# Altium footprint library Stove_Light.PcbLib: 127 footprints (part 6 of 8)
Each footprint in its own frame and in the unit in brackets; x right, y up, seen from the top. Pads: shape width x height; smd on the part's side, far side on the other; paste and mask are expansions set on the pad; w line width, h text height; cw(c..) or ccw(c..) is an arc to the next point about the centre after c.
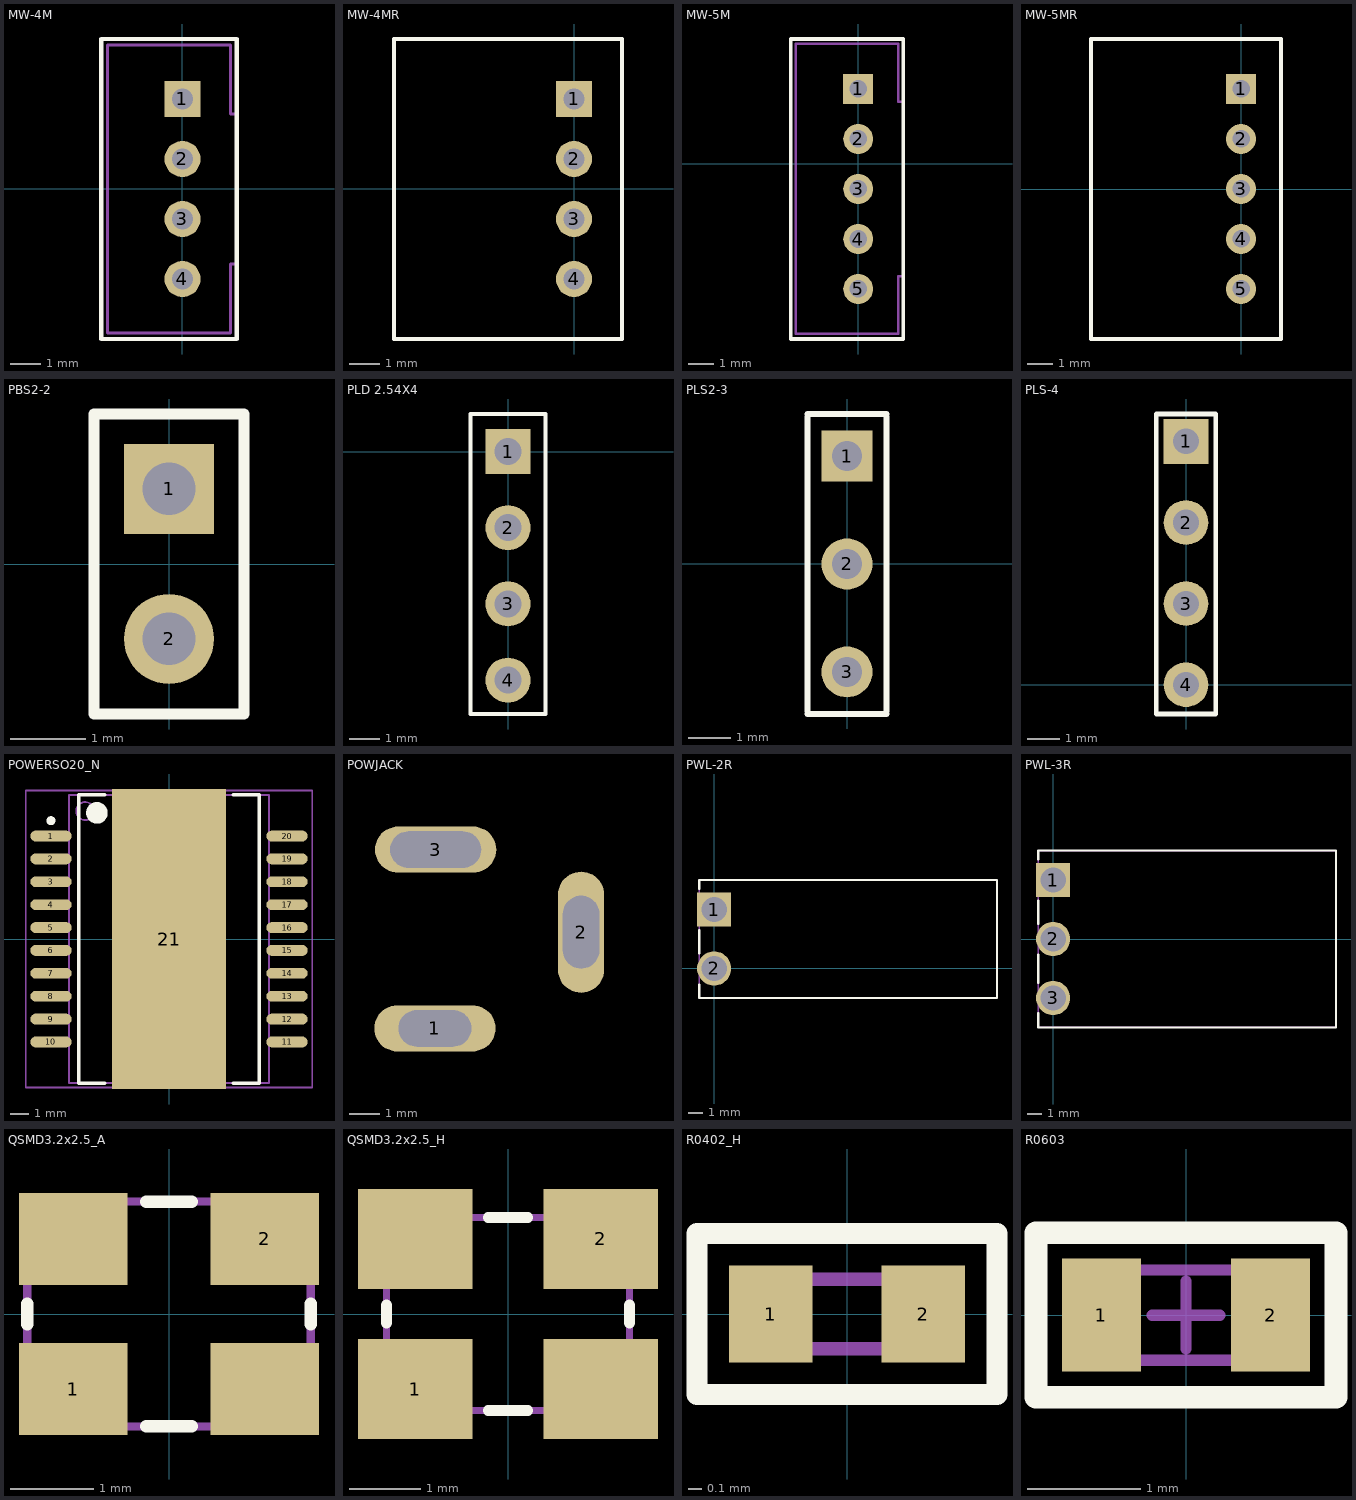
[diagram p5: the footprints below, top view; thin cyan lines are the x and y axes]

## MW-4M [mm]
height 6
pads (4):
  rect 1.2x1.2 hole 0.7: 1(0,3)
  round 1.2 hole 0.7: 2(0,1) 3(0,-1) 4(0,-3)
Top Overlay:
  lines w0.15: -2.7,-5 1.8,-5 1.8,5 -2.7,5 -2.7,-5
Mechanical 7:
  lines w0.1: 1.79,-2.5 1.6,-2.5 1.6,-4.8 -2.5,-4.8 -2.5,4.8 1.6,4.8 1.6,2.5 1.79,2.5 ; -2.7,-5 1.8,-5 1.8,5 -2.7,5 -2.7,-5
Mechanical 10:
  text ".Comment" at -1.27,5.41 h0.6
  text ".Designator" at -1.28,5.98 h0.8
3D body "B4B-PH-K-S.STEP": height 6, standoff -3.4, extent -2.7,-4.95 1.8,4.95

## MW-4MR [mm]
height 4.5
pads (4):
  rect 1.2x1.2 hole 0.7: 1(0,3)
  round 1.2 hole 0.7: 2(0,1) 3(0,-1) 4(0,-3)
Top Overlay:
  lines w0.15: -6,-5 -6,5 1.6,5 1.6,-5 -6,-5
Mechanical 7:
  lines w0.1: -6,-5 1.6,-5 1.6,5 -6,5 -6,-5
Mechanical 10:
  text ".Designator" at -3.43,6.03 h0.8
  text ".Comment" at -3.42,5.46 h0.6
3D body: height 4.8, standoff -3.4, extent -6,-4.95 1.6,4.95

## MW-5M [mm]
pads (5):
  rect 1.2x1.2 hole 0.7: 1(0,3)
  round 1.2 hole 0.7: 2(0,1) 3(0,-1) 4(0,-3) 5(0,-5)
Top Overlay:
  lines w0.15: -2.7,-7 -2.7,5 1.8,5 1.8,-7 -2.7,-7
Mechanical 7:
  lines w0.1: 1.79,-4.5 1.6,-4.5 1.6,-6.8 -2.5,-6.8 -2.5,4.8 1.6,4.8 1.6,2.5 1.79,2.5 ; -2.7,-7 -2.7,5 1.8,5 1.8,-7 -2.7,-7
Mechanical 10:
  text ".Designator" at -1.28,5.98 h0.8
  text ".Comment" at -1.27,5.41 h0.6
3D body "B5B-PH-K-S.STEP": height 6, standoff -3.4, extent -2.7,-6.95 1.8,4.95

## MW-5MR [mm]
height 4.5
pads (5):
  rect 1.2x1.2 hole 0.7: 1(0,4)
  round 1.2 hole 0.7: 2(0,2) 3(0,0) 4(0,-2) 5(0,-4)
Top Overlay:
  lines w0.15: -6,-6 -6,6 1.6,6 1.6,-6 -6,-6
Mechanical 7:
  lines w0.1: -6,-6 -6,6 1.6,6 1.6,-6 -6,-6
Mechanical 10:
  text ".Comment" at -3.42,6.46 h0.6
  text ".Designator" at -3.43,7.03 h0.8
3D body: height 4.8, standoff -3.4, extent -6,-5.95 1.6,5.95

## PBS2-2 [mm]
height 4.5
pads (2):
  rect 1.2x1.2 hole 0.7: 1(0,1)
  round 1.2 hole 0.7: 2(0,-1)
Top Overlay:
  lines w0.15: -1,-2 -1,2 1,2 1,-2 -1,-2
Mechanical 7:
  lines w0.1: -1,-2 -1,2 1,2 1,-2 -1,-2
Mechanical 10:
  text ".Comment" at -0.575,2.475 h0.6
  text ".Designator" at -0.575,3.15 h0.8
3D body: height 4.5, standoff 0, extent -1,-2 1,2

## PLD 2.54X4 [mm]
pads (4):
  rect 1.5x1.5 hole 0.9: 1(0,0)
  round 1.5 hole 0.9: 2(0,-2.54) 3(0,-5.08) 4(0,-7.62)
Top Overlay:
  lines w0.15: -1.25,-8.75 -1.25,1.25 1.25,1.25 1.25,-8.75 -1.25,-8.75

## PLS2-3 [mm]
height 0.05
pads (3):
  rect 1.2x1.2 hole 0.7: 1(0,2.54)
  round 1.2 hole 0.7: 2(0,0) 3(0,-2.54)
Top Overlay:
  lines w0.15: -0.93,-3.53 0.93,-3.53 ; -0.93,-3.47 -0.93,3.47 ; -0.93,3.53 0.93,3.53 ; 0.93,-3.47 0.93,3.47
Mechanical 7:
  lines w0.1: -0.93,-3.53 0.93,-3.53 ; -0.93,-3.47 -0.93,3.47 ; -0.93,3.53 0.93,3.53 ; 0.93,-3.47 0.93,3.47
Mechanical 10:
  text ".Comment" at -0.7,-4.1 h0.6
  text ".Designator" at -0.3,3.7 h0.8
3D body: height 8.54, standoff -3, extent -1.24,-3.81 1.3,3.81

## PLS-4 [mm]
height 0.05
pads (4):
  rect 1.4x1.4 hole 0.8: 1(0,7.62)
  round 1.4 hole 0.8: 2(0,5.08) 3(0,2.54)
  round 1.4 hole 0.8 mask+0.102: 4(0,0)
Top Overlay:
  lines w0.15: -0.93,-0.92 -0.93,8.48 0.93,8.48 0.93,-0.92 -0.93,-0.92
Mechanical 7:
  lines w0.1: -0.93,-0.92 -0.93,8.48 0.93,8.48 0.93,-0.92 -0.93,-0.92
Mechanical 10:
  text ".Comment" at 1.1,-0.3 h0.6
  text ".Designator" at 1.2,8.4 h0.8

## POWERSO20_N [mm] "SOP, 20-Leads, Body 15.9x11mm, Pitch 1.27mm, IPC Medium Density"
height 3.6
pads (21):
  oval 2.3x0.6 smd: 1(-6.55,5.715) 2(-6.55,4.445) 3(-6.55,3.175) 4(-6.55,1.905) 5(-6.55,0.635) 6(-6.55,-0.635) 7(-6.55,-1.905) 8(-6.55,-3.175) 9(-6.55,-4.445) 10(-6.55,-5.715) 11(6.55,-5.715) 12(6.55,-4.445) 13(6.55,-3.175) 14(6.55,-1.905) 15(6.55,-0.635) 16(6.55,0.635) 17(6.55,1.905) 18(6.55,3.175) 19(6.55,4.445) 20(6.55,5.715)
  rect 6.35x16.65 smd: 21(0,0)
Top Overlay:
  circle w0.6: c-4,7 r0.3
  circle w0.25: c-6.55,6.565 r0.125
  lines w0.2: -3.575,-8 -5,-8 -5,8 -3.575,8 ; 3.575,-8 5,-8 5,8 3.575,8
Mechanical 13:
  circle w0.1: c-4.65,7.1 r0.5
  lines w0.1: -5.55,-8 5.55,-8 5.55,8 -5.55,8 -5.55,-8
Mechanical 15:
  lines w0.1: -0.5,0 0.5,0 ; 0,-0.5 0,0.5 ; -7.95,-8.25 7.95,-8.25 7.95,8.25 -7.95,8.25 -7.95,-8.25
3D body: height 3.6, standoff 0, extent -7.15,-8 7.25,8

## POWJACK [mm]
pads (3):
  oval 4x1.524 hole 1.2 slot 2.4 at 0 deg: 1(-14.825,24.775)
  oval 1.524x4 hole 1.2 slot 2.4 at 90 deg: 2(-10,27.95)
  oval 4x1.524 hole 1.2 slot 3 at 0 deg: 3(-14.8,30.675)
3D body: height 11.3, standoff -4.1, extent -19.3,16.9 -9.75,31.4

## PWL-2R [mm]
height 10.2
pads (2):
  rect 2.3x2.3 hole 1.7: 1(0,3.96)
  round 2.3 hole 1.7: 2(0,0)
Top Overlay:
  lines w0.15: -1,-1.98 19,-1.98 19,5.94 -1,5.94 -1,5.35 ; -1,-1.975 -1,-1.1 ; -1,1 -1,2.575
Mechanical 7:
  lines w0.1: -1,-1.98 -1,5.94 19,5.94 19,-1.98 -1,-1.98
Mechanical 10:
  text ".Designator" at 7.945,7.23 h0.8
  text ".Comment" at 7.955,6.66 h0.6
3D body: height 10.2, standoff 0, extent -1,-1.98 19,5.94

## PWL-3R [mm]
height 10.2
pads (3):
  rect 2.3x2.3 hole 1.7: 1(0,3.96)
  round 2.3 hole 1.7: 2(0,0) 3(0,-3.96)
Top Overlay:
  lines w0.15: -1,-4.975 -1,-5.94 19,-5.94 19,5.94 -1,5.94 -1,5.35 ; -1,-2.95 -1,-1.05 ; -1,1.025 -1,2.575
Mechanical 7:
  lines w0.1: -1,-5.94 19,-5.94 19,5.94 -1,5.94 -1,-5.94
Mechanical 10:
  text ".Designator" at 7.945,7.23 h0.8
  text ".Comment" at 7.955,6.66 h0.6
3D body: height 10.2, standoff 0, extent -1,-5.94 19,5.94

## QSMD3.2x2.5_A [mm]
height 1.2
pads (4):
  rect 1.3x1.1 smd: 1(-1.15,-0.9) 2(1.15,0.9) ""(-1.15,0.9) ""(1.15,-0.9)
Top Overlay:
  lines w0.15: -1.7,-0.125 -1.7,0.125 ; -0.275,-1.35 0.275,-1.35 ; -0.275,1.35 0.275,1.35 ; 1.7,-0.125 1.7,0.125
Mechanical 7:
  lines w0.1: -1.7,-1.35 -1.7,1.35 1.7,1.35 1.7,-1.35 -1.7,-1.35
Mechanical 10:
  text ".Designator" at -0.85,2.425 h0.8
  text ".Comment" at -0.825,1.85 h0.6
3D body: height 1.2, standoff 0, extent -1.7,-1.35 1.7,1.35

## QSMD3.2x2.5_H [mm]
height 1.2
pads (4):
  rect 1.6x1.4 smd: 1(-1.3,-1.05) 2(1.3,1.05) ""(-1.3,1.05) ""(1.3,-1.05)
Top Overlay:
  lines w0.15: -1.7,-0.125 -1.7,0.125 ; -0.275,-1.35 0.275,-1.35 ; -0.275,1.35 0.275,1.35 ; 1.7,-0.125 1.7,0.125
Mechanical 7:
  lines w0.1: -1.7,-1.35 1.7,-1.35 1.7,1.35 -1.7,1.35 -1.7,-1.35
Mechanical 10:
  text ".Comment" at -0.8,2.175 h0.6
  text ".Designator" at -0.825,2.75 h0.8
3D body: height 1.2, standoff 0, extent -1.7,-1.35 1.7,1.35

## R0402_H [mm]
height 0.35
pads (2):
  rect 0.6x0.7 smd: 1(-0.55,0) 2(0.55,0)
Top Overlay:
  lines w0.15: -1.08,-0.58 1.08,-0.58 1.08,0.58 -1.08,0.58 -1.08,-0.58
Mechanical 7:
  lines w0.1: -0.5,-0.25 -0.5,0.25 0.5,0.25 0.5,-0.25 -0.5,-0.25
Mechanical 10:
  text ".Comment" at -0.65,-1.15 h0.6
  text ".Designator" at -0.58,0.75 h0.8
3D body: height 0.35, standoff 0, extent -0.5,-0.25 0.5,0.25

## R0603 [mm]
height 0.45
pads (2):
  rect 0.7x1 smd: 1(-0.75,0) 2(0.75,0)
Top Overlay:
  lines w0.2: -1.33,-0.73 1.33,-0.73 1.33,0.73 -1.33,0.73 -1.33,-0.73
Mechanical 9:
  text ".Designator" at -1,0 h1
  text ".Comment" at -1,-0.5 h0.8
Mechanical 11:
  lines w0.1: -0.9,-0.4 0.8,-0.4 0.8,0.4 -0.9,0.4 -0.9,-0.4
Mechanical 15:
  lines w0.05: -1.325,-0.725 -1.325,0.75 1.325,0.75 1.325,-0.725 -1.325,-0.725
  lines w0.1: -0.3,0 0.3,0 ; 0,-0.3 0,0.3
3D body: height 0.5, standoff 0, extent -0.85,-0.4 0.75,0.4